# Altium integrated library Freescale Semiconductor ColdFire MPU.IntLib: 17 symbols (part 2 of 2)
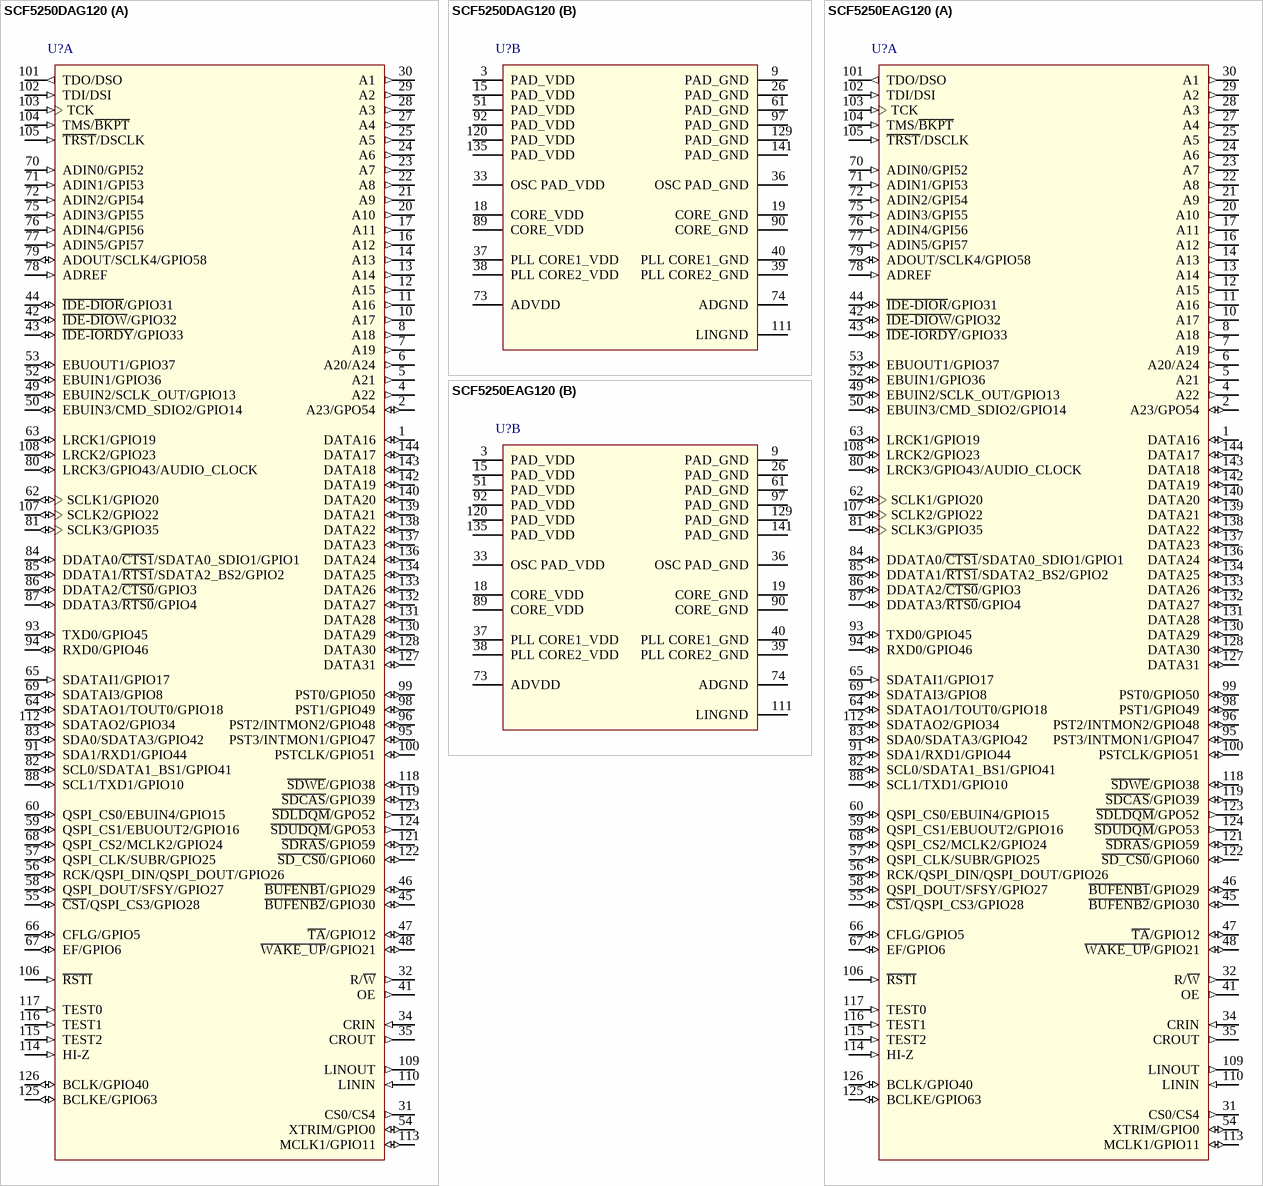
[diagram p9: symbols SCF5250DAG120 to SCF5250EAG120]

## SCF5250DAG120
designator U?
SCF5250 32-Bit Coldfire V2 Microprocessor, 120MHz, 128KB RAM, -20°C to 70°C, Lead Free, 144-Pin QFP; DatasheetVersion: rev1.3, Jul-2006; PackageVersion: revG, Nov-2009; PackageReference: 918-03; PackageDescription: 144-Pin Thin Quad Flat Pack, 20 x 20 mm Body, 0.5 mm Pitch; ComponentLink1Description: Manufacturer URL; ComponentLink1URL: http://www.freescale.com/
footprint 918-03_N (Thin QFP, 144-Leads, Body 20x20mm, Pitch 0.5mm, IPC Medium Density)
footprint 918-03_L (Thin QFP, 144-Leads, Body 20x20mm, Pitch 0.5mm, IPC High Density)
footprint 918-03_M (Thin QFP, 144-Leads, Body 20x20mm, Pitch 0.5mm, IPC Low Density)
part A pins: 1 DATA16 (io), 2 A23/GPO54 (io), 4 A22 (out), 5 A21 (out), 6 A20/A24 (out), 7 A19 (out), 8 A18 (out), 10 A17 (out), 11 A16 (out), 12 A15 (out), 13 A14 (out), 14 A13 (out), 16 A12 (out), 17 A11 (out), 20 A10 (out), 21 A9 (out), 22 A8 (out), 23 A7 (out), 24 A6 (out), 25 A5 (out), 27 A4 (out), 28 A3 (out), 29 A2 (out), 30 A1 (out), 31 CS0/CS4 (out), 32 R/~{W} (out), 34 CRIN (in), 35 CROUT (out), 41 OE (out), 42 ~{IDE-DIOW}/GPIO32 (io), 43 ~{IDE-IORDY}/GPIO33 (io), 44 ~{IDE-DIOR}/GPIO31 (io), 45 ~{BUFENB2}/GPIO30 (io), 46 ~{BUFENB1}/GPIO29 (io), 47 ~{TA}/GPIO12 (io), 48 ~{WAKE_UP}/GPIO21 (io), 49 EBUIN2/SCLK_OUT/GPIO13 (io), 50 EBUIN3/CMD_SDIO2/GPIO14 (io), 52 EBUIN1/GPIO36 (io), 53 EBUOUT1/GPIO37 (io), 54 XTRIM/GPIO0 (io), 55 ~{CS1}/QSPI_CS3/GPIO28 (io), 56 RCK/QSPI_DIN/QSPI_DOUT/GPIO26 (io), 57 QSPI_CLK/SUBR/GPIO25 (io), 58 QSPI_DOUT/SFSY/GPIO27 (io), 59 QSPI_CS1/EBUOUT2/GPIO16 (io), 60 QSPI_CS0/EBUIN4/GPIO15 (io), 62 SCLK1/GPIO20 (io), 63 LRCK1/GPIO19 (io), 64 SDATAO1/TOUT0/GPIO18 (io), 65 SDATAI1/GPIO17 (in), 66 CFLG/GPIO5 (io), 67 EF/GPIO6 (io), 68 QSPI_CS2/MCLK2/GPIO24 (io), 69 SDATAI3/GPIO8 (io), 70 ADIN0/GPI52 (in), 71 ADIN1/GPI53 (in), 72 ADIN2/GPI54 (in), 75 ADIN3/GPI55 (in), 76 ADIN4/GPI56 (in), 77 ADIN5/GPI57 (in), 78 ADREF (in), 79 ADOUT/SCLK4/GPIO58 (io), 80 LRCK3/GPIO43/AUDIO_CLOCK (io), 81 SCLK3/GPIO35 (io), 82 SCL0/SDATA1_BS1/GPIO41 (io), 83 SDA0/SDATA3/GPIO42 (io), 84 DDATA0/~{CTS1}/SDATA0_SDIO1/GPIO1 (io), 85 DDATA1/~{RTS1}/SDATA2_BS2/GPIO2 (io), 86 DDATA2/~{CTS0}/GPIO3 (io), 87 DDATA3/~{RTS0}/GPIO4 (io), 88 SCL1/TXD1/GPIO10 (io), 91 SDA1/RXD1/GPIO44 (io), 93 TXD0/GPIO45 (io), 94 RXD0/GPIO46 (io), 95 PST3/INTMON1/GPIO47 (io), 96 PST2/INTMON2/GPIO48 (io), 98 PST1/GPIO49 (io), 99 PST0/GPIO50 (io), 100 PSTCLK/GPIO51 (io), 101 TDO/DSO (out), 102 TDI/DSI (in), 103 TCK (in), 104 TMS/~{BKPT} (in), 105 ~{TRST}/DSCLK (in), 106 ~{RSTI} (in), 107 SCLK2/GPIO22 (io), 108 LRCK2/GPIO23 (io), 109 LINOUT (out), 110 LININ (in), 112 SDATAO2/GPIO34 (io), 113 MCLK1/GPIO11 (io), 114 HI-Z (in), 115 TEST2 (in), 116 TEST1 (in), 117 TEST0 (in), 118 ~{SDWE}/GPIO38 (io), 119 ~{SDCAS}/GPIO39 (io), 121 ~{SDRAS}/GPIO59 (io), 122 ~{SD_CS0}/GPIO60 (io), 123 ~{SDLDQM}/GPO52 (out), 124 ~{SDUDQM}/GPO53 (out), 125 BCLKE/GPIO63 (io), 126 BCLK/GPIO40 (io), 127 DATA31 (io), 128 DATA30 (io), 130 DATA29 (io), 131 DATA28 (io), 132 DATA27 (io), 133 DATA26 (io), 134 DATA25 (io), 136 DATA24 (io), 137 DATA23 (io), 138 DATA22 (io), 139 DATA21 (io), 140 DATA20 (io), 142 DATA19 (io), 143 DATA18 (io), 144 DATA17 (io)
part B pins: 3 PAD_VDD (power), 9 PAD_GND (power), 15 PAD_VDD (power), 18 CORE_VDD (power), 19 CORE_GND (power), 26 PAD_GND (power), 33 OSC PAD_VDD (power), 36 OSC PAD_GND (power), 37 PLL CORE1_VDD (power), 38 PLL CORE2_VDD (power), 39 PLL CORE2_GND (power), 40 PLL CORE1_GND (power), 51 PAD_VDD (power), 61 PAD_GND (power), 73 ADVDD (power), 74 ADGND (power), 89 CORE_VDD (power), 90 CORE_GND (power), 92 PAD_VDD (power), 97 PAD_GND (power), 111 LINGND (power), 120 PAD_VDD (power), 129 PAD_GND (power), 135 PAD_VDD (power), 141 PAD_GND (power)

## SCF5250EAG120
designator U?
SCF5250 32-Bit Coldfire V2 Microprocessor, 120MHz, 128KB RAM, -20°C to 70°C, Lead Free, 144-Pin QFP; DatasheetVersion: rev1.3, Jul-2006; PackageVersion: revG, Nov-2009; PackageReference: 918-03; PackageDescription: 144-Pin Thin Quad Flat Pack, 20 x 20 mm Body, 0.5 mm Pitch; ComponentLink1Description: Manufacturer URL; ComponentLink1URL: http://www.freescale.com/
footprint 918-03_N (Thin QFP, 144-Leads, Body 20x20mm, Pitch 0.5mm, IPC Medium Density)
footprint 918-03_L (Thin QFP, 144-Leads, Body 20x20mm, Pitch 0.5mm, IPC High Density)
footprint 918-03_M (Thin QFP, 144-Leads, Body 20x20mm, Pitch 0.5mm, IPC Low Density)
part A pins: 1 DATA16 (io), 2 A23/GPO54 (io), 4 A22 (out), 5 A21 (out), 6 A20/A24 (out), 7 A19 (out), 8 A18 (out), 10 A17 (out), 11 A16 (out), 12 A15 (out), 13 A14 (out), 14 A13 (out), 16 A12 (out), 17 A11 (out), 20 A10 (out), 21 A9 (out), 22 A8 (out), 23 A7 (out), 24 A6 (out), 25 A5 (out), 27 A4 (out), 28 A3 (out), 29 A2 (out), 30 A1 (out), 31 CS0/CS4 (out), 32 R/~{W} (out), 34 CRIN (in), 35 CROUT (out), 41 OE (out), 42 ~{IDE-DIOW}/GPIO32 (io), 43 ~{IDE-IORDY}/GPIO33 (io), 44 ~{IDE-DIOR}/GPIO31 (io), 45 ~{BUFENB2}/GPIO30 (io), 46 ~{BUFENB1}/GPIO29 (io), 47 ~{TA}/GPIO12 (io), 48 ~{WAKE_UP}/GPIO21 (io), 49 EBUIN2/SCLK_OUT/GPIO13 (io), 50 EBUIN3/CMD_SDIO2/GPIO14 (io), 52 EBUIN1/GPIO36 (io), 53 EBUOUT1/GPIO37 (io), 54 XTRIM/GPIO0 (io), 55 ~{CS1}/QSPI_CS3/GPIO28 (io), 56 RCK/QSPI_DIN/QSPI_DOUT/GPIO26 (io), 57 QSPI_CLK/SUBR/GPIO25 (io), 58 QSPI_DOUT/SFSY/GPIO27 (io), 59 QSPI_CS1/EBUOUT2/GPIO16 (io), 60 QSPI_CS0/EBUIN4/GPIO15 (io), 62 SCLK1/GPIO20 (io), 63 LRCK1/GPIO19 (io), 64 SDATAO1/TOUT0/GPIO18 (io), 65 SDATAI1/GPIO17 (in), 66 CFLG/GPIO5 (io), 67 EF/GPIO6 (io), 68 QSPI_CS2/MCLK2/GPIO24 (io), 69 SDATAI3/GPIO8 (io), 70 ADIN0/GPI52 (in), 71 ADIN1/GPI53 (in), 72 ADIN2/GPI54 (in), 75 ADIN3/GPI55 (in), 76 ADIN4/GPI56 (in), 77 ADIN5/GPI57 (in), 78 ADREF (in), 79 ADOUT/SCLK4/GPIO58 (io), 80 LRCK3/GPIO43/AUDIO_CLOCK (io), 81 SCLK3/GPIO35 (io), 82 SCL0/SDATA1_BS1/GPIO41 (io), 83 SDA0/SDATA3/GPIO42 (io), 84 DDATA0/~{CTS1}/SDATA0_SDIO1/GPIO1 (io), 85 DDATA1/~{RTS1}/SDATA2_BS2/GPIO2 (io), 86 DDATA2/~{CTS0}/GPIO3 (io), 87 DDATA3/~{RTS0}/GPIO4 (io), 88 SCL1/TXD1/GPIO10 (io), 91 SDA1/RXD1/GPIO44 (io), 93 TXD0/GPIO45 (io), 94 RXD0/GPIO46 (io), 95 PST3/INTMON1/GPIO47 (io), 96 PST2/INTMON2/GPIO48 (io), 98 PST1/GPIO49 (io), 99 PST0/GPIO50 (io), 100 PSTCLK/GPIO51 (io), 101 TDO/DSO (out), 102 TDI/DSI (in), 103 TCK (in), 104 TMS/~{BKPT} (in), 105 ~{TRST}/DSCLK (in), 106 ~{RSTI} (in), 107 SCLK2/GPIO22 (io), 108 LRCK2/GPIO23 (io), 109 LINOUT (out), 110 LININ (in), 112 SDATAO2/GPIO34 (io), 113 MCLK1/GPIO11 (io), 114 HI-Z (in), 115 TEST2 (in), 116 TEST1 (in), 117 TEST0 (in), 118 ~{SDWE}/GPIO38 (io), 119 ~{SDCAS}/GPIO39 (io), 121 ~{SDRAS}/GPIO59 (io), 122 ~{SD_CS0}/GPIO60 (io), 123 ~{SDLDQM}/GPO52 (out), 124 ~{SDUDQM}/GPO53 (out), 125 BCLKE/GPIO63 (io), 126 BCLK/GPIO40 (io), 127 DATA31 (io), 128 DATA30 (io), 130 DATA29 (io), 131 DATA28 (io), 132 DATA27 (io), 133 DATA26 (io), 134 DATA25 (io), 136 DATA24 (io), 137 DATA23 (io), 138 DATA22 (io), 139 DATA21 (io), 140 DATA20 (io), 142 DATA19 (io), 143 DATA18 (io), 144 DATA17 (io)
part B pins: 3 PAD_VDD (power), 9 PAD_GND (power), 15 PAD_VDD (power), 18 CORE_VDD (power), 19 CORE_GND (power), 26 PAD_GND (power), 33 OSC PAD_VDD (power), 36 OSC PAD_GND (power), 37 PLL CORE1_VDD (power), 38 PLL CORE2_VDD (power), 39 PLL CORE2_GND (power), 40 PLL CORE1_GND (power), 51 PAD_VDD (power), 61 PAD_GND (power), 73 ADVDD (power), 74 ADGND (power), 89 CORE_VDD (power), 90 CORE_GND (power), 92 PAD_VDD (power), 97 PAD_GND (power), 111 LINGND (power), 120 PAD_VDD (power), 129 PAD_GND (power), 135 PAD_VDD (power), 141 PAD_GND (power)

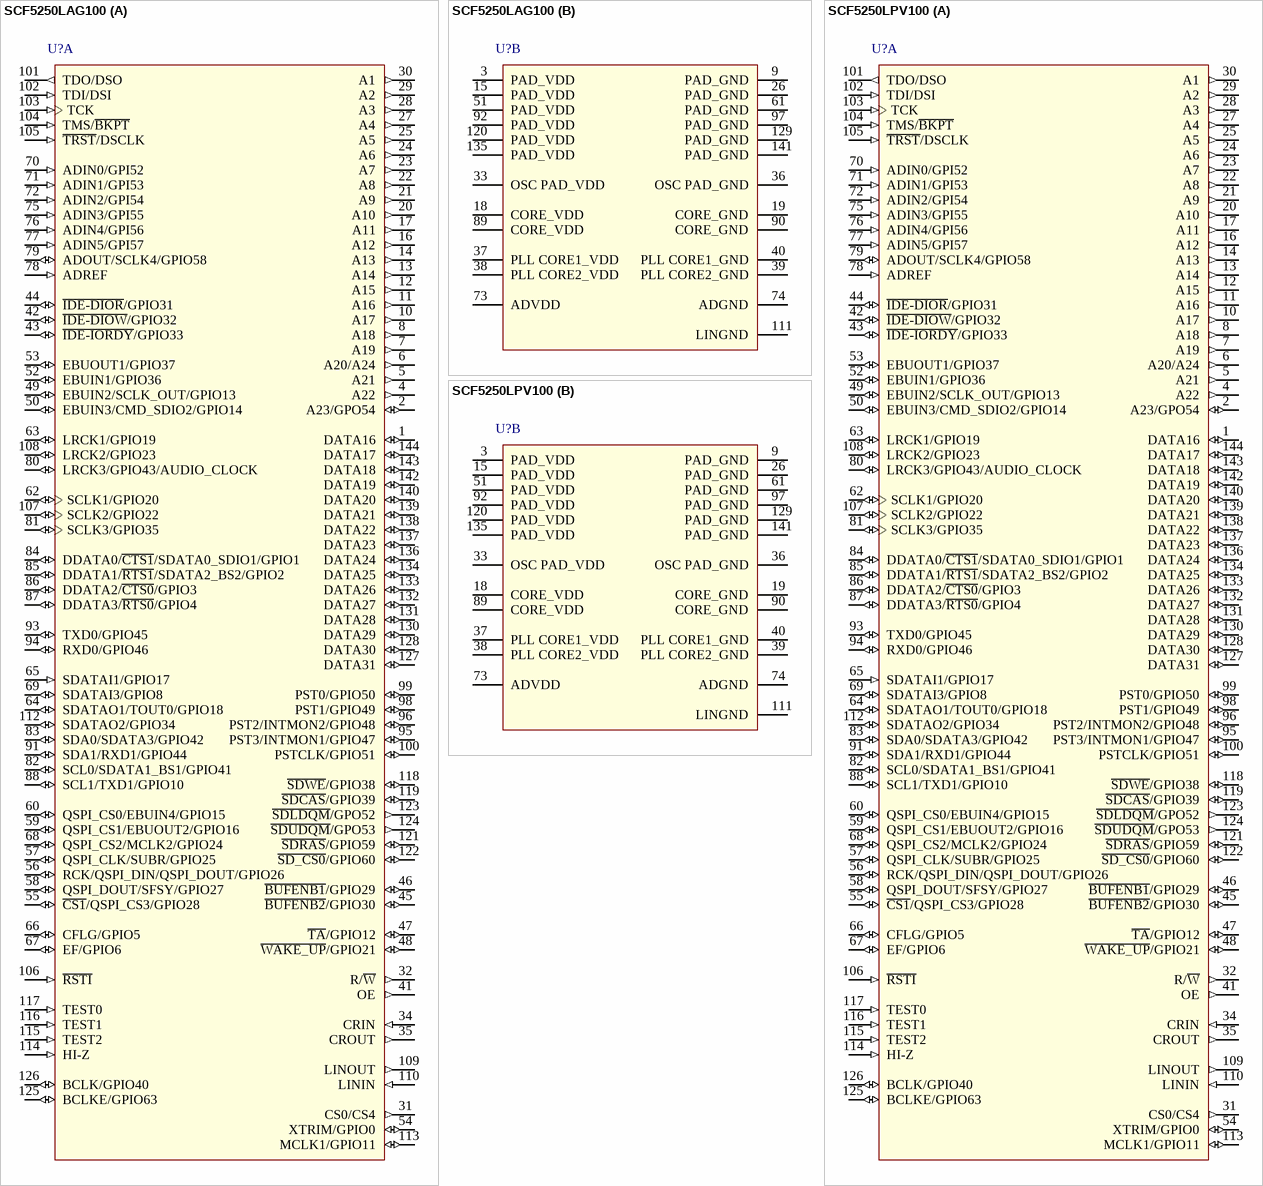
[diagram p7: symbols SCF5250LAG100 to SCF5250LPV100]

## SCF5250LAG100
designator U?
SCF5250 32-Bit Coldfire V2 Microprocessor, 100MHz, 128KB RAM, -20°C to 70°C, Lead Free, 144-Pin QFP; DatasheetVersion: rev1.3, Jul-2006; PackageVersion: revG, Nov-2009; PackageReference: 918-03; PackageDescription: 144-Pin Thin Quad Flat Pack, 20 x 20 mm Body, 0.5 mm Pitch; ComponentLink1Description: Manufacturer URL; ComponentLink1URL: http://www.freescale.com/
footprint 918-03_N (Thin QFP, 144-Leads, Body 20x20mm, Pitch 0.5mm, IPC Medium Density)
footprint 918-03_L (Thin QFP, 144-Leads, Body 20x20mm, Pitch 0.5mm, IPC High Density)
footprint 918-03_M (Thin QFP, 144-Leads, Body 20x20mm, Pitch 0.5mm, IPC Low Density)
part A pins: 1 DATA16 (io), 2 A23/GPO54 (io), 4 A22 (out), 5 A21 (out), 6 A20/A24 (out), 7 A19 (out), 8 A18 (out), 10 A17 (out), 11 A16 (out), 12 A15 (out), 13 A14 (out), 14 A13 (out), 16 A12 (out), 17 A11 (out), 20 A10 (out), 21 A9 (out), 22 A8 (out), 23 A7 (out), 24 A6 (out), 25 A5 (out), 27 A4 (out), 28 A3 (out), 29 A2 (out), 30 A1 (out), 31 CS0/CS4 (out), 32 R/~{W} (out), 34 CRIN (in), 35 CROUT (out), 41 OE (out), 42 ~{IDE-DIOW}/GPIO32 (io), 43 ~{IDE-IORDY}/GPIO33 (io), 44 ~{IDE-DIOR}/GPIO31 (io), 45 ~{BUFENB2}/GPIO30 (io), 46 ~{BUFENB1}/GPIO29 (io), 47 ~{TA}/GPIO12 (io), 48 ~{WAKE_UP}/GPIO21 (io), 49 EBUIN2/SCLK_OUT/GPIO13 (io), 50 EBUIN3/CMD_SDIO2/GPIO14 (io), 52 EBUIN1/GPIO36 (io), 53 EBUOUT1/GPIO37 (io), 54 XTRIM/GPIO0 (io), 55 ~{CS1}/QSPI_CS3/GPIO28 (io), 56 RCK/QSPI_DIN/QSPI_DOUT/GPIO26 (io), 57 QSPI_CLK/SUBR/GPIO25 (io), 58 QSPI_DOUT/SFSY/GPIO27 (io), 59 QSPI_CS1/EBUOUT2/GPIO16 (io), 60 QSPI_CS0/EBUIN4/GPIO15 (io), 62 SCLK1/GPIO20 (io), 63 LRCK1/GPIO19 (io), 64 SDATAO1/TOUT0/GPIO18 (io), 65 SDATAI1/GPIO17 (in), 66 CFLG/GPIO5 (io), 67 EF/GPIO6 (io), 68 QSPI_CS2/MCLK2/GPIO24 (io), 69 SDATAI3/GPIO8 (io), 70 ADIN0/GPI52 (in), 71 ADIN1/GPI53 (in), 72 ADIN2/GPI54 (in), 75 ADIN3/GPI55 (in), 76 ADIN4/GPI56 (in), 77 ADIN5/GPI57 (in), 78 ADREF (in), 79 ADOUT/SCLK4/GPIO58 (io), 80 LRCK3/GPIO43/AUDIO_CLOCK (io), 81 SCLK3/GPIO35 (io), 82 SCL0/SDATA1_BS1/GPIO41 (io), 83 SDA0/SDATA3/GPIO42 (io), 84 DDATA0/~{CTS1}/SDATA0_SDIO1/GPIO1 (io), 85 DDATA1/~{RTS1}/SDATA2_BS2/GPIO2 (io), 86 DDATA2/~{CTS0}/GPIO3 (io), 87 DDATA3/~{RTS0}/GPIO4 (io), 88 SCL1/TXD1/GPIO10 (io), 91 SDA1/RXD1/GPIO44 (io), 93 TXD0/GPIO45 (io), 94 RXD0/GPIO46 (io), 95 PST3/INTMON1/GPIO47 (io), 96 PST2/INTMON2/GPIO48 (io), 98 PST1/GPIO49 (io), 99 PST0/GPIO50 (io), 100 PSTCLK/GPIO51 (io), 101 TDO/DSO (out), 102 TDI/DSI (in), 103 TCK (in), 104 TMS/~{BKPT} (in), 105 ~{TRST}/DSCLK (in), 106 ~{RSTI} (in), 107 SCLK2/GPIO22 (io), 108 LRCK2/GPIO23 (io), 109 LINOUT (out), 110 LININ (in), 112 SDATAO2/GPIO34 (io), 113 MCLK1/GPIO11 (io), 114 HI-Z (in), 115 TEST2 (in), 116 TEST1 (in), 117 TEST0 (in), 118 ~{SDWE}/GPIO38 (io), 119 ~{SDCAS}/GPIO39 (io), 121 ~{SDRAS}/GPIO59 (io), 122 ~{SD_CS0}/GPIO60 (io), 123 ~{SDLDQM}/GPO52 (out), 124 ~{SDUDQM}/GPO53 (out), 125 BCLKE/GPIO63 (io), 126 BCLK/GPIO40 (io), 127 DATA31 (io), 128 DATA30 (io), 130 DATA29 (io), 131 DATA28 (io), 132 DATA27 (io), 133 DATA26 (io), 134 DATA25 (io), 136 DATA24 (io), 137 DATA23 (io), 138 DATA22 (io), 139 DATA21 (io), 140 DATA20 (io), 142 DATA19 (io), 143 DATA18 (io), 144 DATA17 (io)
part B pins: 3 PAD_VDD (power), 9 PAD_GND (power), 15 PAD_VDD (power), 18 CORE_VDD (power), 19 CORE_GND (power), 26 PAD_GND (power), 33 OSC PAD_VDD (power), 36 OSC PAD_GND (power), 37 PLL CORE1_VDD (power), 38 PLL CORE2_VDD (power), 39 PLL CORE2_GND (power), 40 PLL CORE1_GND (power), 51 PAD_VDD (power), 61 PAD_GND (power), 73 ADVDD (power), 74 ADGND (power), 89 CORE_VDD (power), 90 CORE_GND (power), 92 PAD_VDD (power), 97 PAD_GND (power), 111 LINGND (power), 120 PAD_VDD (power), 129 PAD_GND (power), 135 PAD_VDD (power), 141 PAD_GND (power)

## SCF5250LPV100
designator U?
SCF5250 32-Bit Coldfire V2 Microprocessor, 100MHz, 128KB RAM, -20°C to 70°C, Leaded, 144-Pin QFP; DatasheetVersion: rev1.3, Jul-2006; PackageVersion: revG, Nov-2009; PackageReference: 918-03; PackageDescription: 144-Pin Thin Quad Flat Pack, 20 x 20 mm Body, 0.5 mm Pitch; ComponentLink1Description: Manufacturer URL; ComponentLink1URL: http://www.freescale.com/
footprint 918-03_N (Thin QFP, 144-Leads, Body 20x20mm, Pitch 0.5mm, IPC Medium Density)
footprint 918-03_L (Thin QFP, 144-Leads, Body 20x20mm, Pitch 0.5mm, IPC High Density)
footprint 918-03_M (Thin QFP, 144-Leads, Body 20x20mm, Pitch 0.5mm, IPC Low Density)
part A pins: 1 DATA16 (io), 2 A23/GPO54 (io), 4 A22 (out), 5 A21 (out), 6 A20/A24 (out), 7 A19 (out), 8 A18 (out), 10 A17 (out), 11 A16 (out), 12 A15 (out), 13 A14 (out), 14 A13 (out), 16 A12 (out), 17 A11 (out), 20 A10 (out), 21 A9 (out), 22 A8 (out), 23 A7 (out), 24 A6 (out), 25 A5 (out), 27 A4 (out), 28 A3 (out), 29 A2 (out), 30 A1 (out), 31 CS0/CS4 (out), 32 R/~{W} (out), 34 CRIN (in), 35 CROUT (out), 41 OE (out), 42 ~{IDE-DIOW}/GPIO32 (io), 43 ~{IDE-IORDY}/GPIO33 (io), 44 ~{IDE-DIOR}/GPIO31 (io), 45 ~{BUFENB2}/GPIO30 (io), 46 ~{BUFENB1}/GPIO29 (io), 47 ~{TA}/GPIO12 (io), 48 ~{WAKE_UP}/GPIO21 (io), 49 EBUIN2/SCLK_OUT/GPIO13 (io), 50 EBUIN3/CMD_SDIO2/GPIO14 (io), 52 EBUIN1/GPIO36 (io), 53 EBUOUT1/GPIO37 (io), 54 XTRIM/GPIO0 (io), 55 ~{CS1}/QSPI_CS3/GPIO28 (io), 56 RCK/QSPI_DIN/QSPI_DOUT/GPIO26 (io), 57 QSPI_CLK/SUBR/GPIO25 (io), 58 QSPI_DOUT/SFSY/GPIO27 (io), 59 QSPI_CS1/EBUOUT2/GPIO16 (io), 60 QSPI_CS0/EBUIN4/GPIO15 (io), 62 SCLK1/GPIO20 (io), 63 LRCK1/GPIO19 (io), 64 SDATAO1/TOUT0/GPIO18 (io), 65 SDATAI1/GPIO17 (in), 66 CFLG/GPIO5 (io), 67 EF/GPIO6 (io), 68 QSPI_CS2/MCLK2/GPIO24 (io), 69 SDATAI3/GPIO8 (io), 70 ADIN0/GPI52 (in), 71 ADIN1/GPI53 (in), 72 ADIN2/GPI54 (in), 75 ADIN3/GPI55 (in), 76 ADIN4/GPI56 (in), 77 ADIN5/GPI57 (in), 78 ADREF (in), 79 ADOUT/SCLK4/GPIO58 (io), 80 LRCK3/GPIO43/AUDIO_CLOCK (io), 81 SCLK3/GPIO35 (io), 82 SCL0/SDATA1_BS1/GPIO41 (io), 83 SDA0/SDATA3/GPIO42 (io), 84 DDATA0/~{CTS1}/SDATA0_SDIO1/GPIO1 (io), 85 DDATA1/~{RTS1}/SDATA2_BS2/GPIO2 (io), 86 DDATA2/~{CTS0}/GPIO3 (io), 87 DDATA3/~{RTS0}/GPIO4 (io), 88 SCL1/TXD1/GPIO10 (io), 91 SDA1/RXD1/GPIO44 (io), 93 TXD0/GPIO45 (io), 94 RXD0/GPIO46 (io), 95 PST3/INTMON1/GPIO47 (io), 96 PST2/INTMON2/GPIO48 (io), 98 PST1/GPIO49 (io), 99 PST0/GPIO50 (io), 100 PSTCLK/GPIO51 (io), 101 TDO/DSO (out), 102 TDI/DSI (in), 103 TCK (in), 104 TMS/~{BKPT} (in), 105 ~{TRST}/DSCLK (in), 106 ~{RSTI} (in), 107 SCLK2/GPIO22 (io), 108 LRCK2/GPIO23 (io), 109 LINOUT (out), 110 LININ (in), 112 SDATAO2/GPIO34 (io), 113 MCLK1/GPIO11 (io), 114 HI-Z (in), 115 TEST2 (in), 116 TEST1 (in), 117 TEST0 (in), 118 ~{SDWE}/GPIO38 (io), 119 ~{SDCAS}/GPIO39 (io), 121 ~{SDRAS}/GPIO59 (io), 122 ~{SD_CS0}/GPIO60 (io), 123 ~{SDLDQM}/GPO52 (out), 124 ~{SDUDQM}/GPO53 (out), 125 BCLKE/GPIO63 (io), 126 BCLK/GPIO40 (io), 127 DATA31 (io), 128 DATA30 (io), 130 DATA29 (io), 131 DATA28 (io), 132 DATA27 (io), 133 DATA26 (io), 134 DATA25 (io), 136 DATA24 (io), 137 DATA23 (io), 138 DATA22 (io), 139 DATA21 (io), 140 DATA20 (io), 142 DATA19 (io), 143 DATA18 (io), 144 DATA17 (io)
part B pins: 3 PAD_VDD (power), 9 PAD_GND (power), 15 PAD_VDD (power), 18 CORE_VDD (power), 19 CORE_GND (power), 26 PAD_GND (power), 33 OSC PAD_VDD (power), 36 OSC PAD_GND (power), 37 PLL CORE1_VDD (power), 38 PLL CORE2_VDD (power), 39 PLL CORE2_GND (power), 40 PLL CORE1_GND (power), 51 PAD_VDD (power), 61 PAD_GND (power), 73 ADVDD (power), 74 ADGND (power), 89 CORE_VDD (power), 90 CORE_GND (power), 92 PAD_VDD (power), 97 PAD_GND (power), 111 LINGND (power), 120 PAD_VDD (power), 129 PAD_GND (power), 135 PAD_VDD (power), 141 PAD_GND (power)

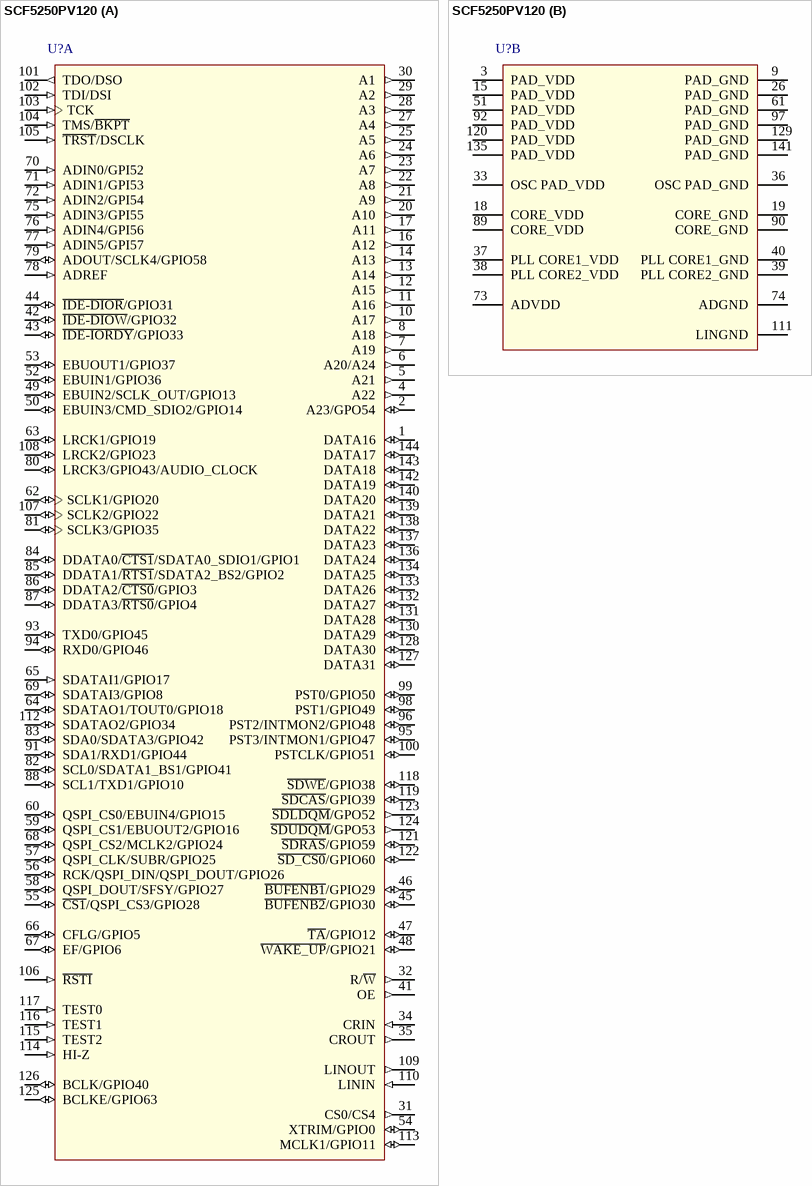
[diagram p8: symbol SCF5250PV120]

## SCF5250PV120
designator U?
SCF5250 32-Bit Coldfire V2 Microprocessor, 120MHz, 128KB RAM, -20°C to 70°C, Leaded, 144-Pin QFP; DatasheetVersion: rev1.3, Jul-2006; PackageVersion: revG, Nov-2009; PackageReference: 918-03; PackageDescription: 144-Pin Thin Quad Flat Pack, 20 x 20 mm Body, 0.5 mm Pitch; ComponentLink1Description: Manufacturer URL; ComponentLink1URL: http://www.freescale.com/
footprint 918-03_N (Thin QFP, 144-Leads, Body 20x20mm, Pitch 0.5mm, IPC Medium Density)
footprint 918-03_L (Thin QFP, 144-Leads, Body 20x20mm, Pitch 0.5mm, IPC High Density)
footprint 918-03_M (Thin QFP, 144-Leads, Body 20x20mm, Pitch 0.5mm, IPC Low Density)
part A pins: 1 DATA16 (io), 2 A23/GPO54 (io), 4 A22 (out), 5 A21 (out), 6 A20/A24 (out), 7 A19 (out), 8 A18 (out), 10 A17 (out), 11 A16 (out), 12 A15 (out), 13 A14 (out), 14 A13 (out), 16 A12 (out), 17 A11 (out), 20 A10 (out), 21 A9 (out), 22 A8 (out), 23 A7 (out), 24 A6 (out), 25 A5 (out), 27 A4 (out), 28 A3 (out), 29 A2 (out), 30 A1 (out), 31 CS0/CS4 (out), 32 R/~{W} (out), 34 CRIN (in), 35 CROUT (out), 41 OE (out), 42 ~{IDE-DIOW}/GPIO32 (io), 43 ~{IDE-IORDY}/GPIO33 (io), 44 ~{IDE-DIOR}/GPIO31 (io), 45 ~{BUFENB2}/GPIO30 (io), 46 ~{BUFENB1}/GPIO29 (io), 47 ~{TA}/GPIO12 (io), 48 ~{WAKE_UP}/GPIO21 (io), 49 EBUIN2/SCLK_OUT/GPIO13 (io), 50 EBUIN3/CMD_SDIO2/GPIO14 (io), 52 EBUIN1/GPIO36 (io), 53 EBUOUT1/GPIO37 (io), 54 XTRIM/GPIO0 (io), 55 ~{CS1}/QSPI_CS3/GPIO28 (io), 56 RCK/QSPI_DIN/QSPI_DOUT/GPIO26 (io), 57 QSPI_CLK/SUBR/GPIO25 (io), 58 QSPI_DOUT/SFSY/GPIO27 (io), 59 QSPI_CS1/EBUOUT2/GPIO16 (io), 60 QSPI_CS0/EBUIN4/GPIO15 (io), 62 SCLK1/GPIO20 (io), 63 LRCK1/GPIO19 (io), 64 SDATAO1/TOUT0/GPIO18 (io), 65 SDATAI1/GPIO17 (in), 66 CFLG/GPIO5 (io), 67 EF/GPIO6 (io), 68 QSPI_CS2/MCLK2/GPIO24 (io), 69 SDATAI3/GPIO8 (io), 70 ADIN0/GPI52 (in), 71 ADIN1/GPI53 (in), 72 ADIN2/GPI54 (in), 75 ADIN3/GPI55 (in), 76 ADIN4/GPI56 (in), 77 ADIN5/GPI57 (in), 78 ADREF (in), 79 ADOUT/SCLK4/GPIO58 (io), 80 LRCK3/GPIO43/AUDIO_CLOCK (io), 81 SCLK3/GPIO35 (io), 82 SCL0/SDATA1_BS1/GPIO41 (io), 83 SDA0/SDATA3/GPIO42 (io), 84 DDATA0/~{CTS1}/SDATA0_SDIO1/GPIO1 (io), 85 DDATA1/~{RTS1}/SDATA2_BS2/GPIO2 (io), 86 DDATA2/~{CTS0}/GPIO3 (io), 87 DDATA3/~{RTS0}/GPIO4 (io), 88 SCL1/TXD1/GPIO10 (io), 91 SDA1/RXD1/GPIO44 (io), 93 TXD0/GPIO45 (io), 94 RXD0/GPIO46 (io), 95 PST3/INTMON1/GPIO47 (io), 96 PST2/INTMON2/GPIO48 (io), 98 PST1/GPIO49 (io), 99 PST0/GPIO50 (io), 100 PSTCLK/GPIO51 (io), 101 TDO/DSO (out), 102 TDI/DSI (in), 103 TCK (in), 104 TMS/~{BKPT} (in), 105 ~{TRST}/DSCLK (in), 106 ~{RSTI} (in), 107 SCLK2/GPIO22 (io), 108 LRCK2/GPIO23 (io), 109 LINOUT (out), 110 LININ (in), 112 SDATAO2/GPIO34 (io), 113 MCLK1/GPIO11 (io), 114 HI-Z (in), 115 TEST2 (in), 116 TEST1 (in), 117 TEST0 (in), 118 ~{SDWE}/GPIO38 (io), 119 ~{SDCAS}/GPIO39 (io), 121 ~{SDRAS}/GPIO59 (io), 122 ~{SD_CS0}/GPIO60 (io), 123 ~{SDLDQM}/GPO52 (out), 124 ~{SDUDQM}/GPO53 (out), 125 BCLKE/GPIO63 (io), 126 BCLK/GPIO40 (io), 127 DATA31 (io), 128 DATA30 (io), 130 DATA29 (io), 131 DATA28 (io), 132 DATA27 (io), 133 DATA26 (io), 134 DATA25 (io), 136 DATA24 (io), 137 DATA23 (io), 138 DATA22 (io), 139 DATA21 (io), 140 DATA20 (io), 142 DATA19 (io), 143 DATA18 (io), 144 DATA17 (io)
part B pins: 3 PAD_VDD (power), 9 PAD_GND (power), 15 PAD_VDD (power), 18 CORE_VDD (power), 19 CORE_GND (power), 26 PAD_GND (power), 33 OSC PAD_VDD (power), 36 OSC PAD_GND (power), 37 PLL CORE1_VDD (power), 38 PLL CORE2_VDD (power), 39 PLL CORE2_GND (power), 40 PLL CORE1_GND (power), 51 PAD_VDD (power), 61 PAD_GND (power), 73 ADVDD (power), 74 ADGND (power), 89 CORE_VDD (power), 90 CORE_GND (power), 92 PAD_VDD (power), 97 PAD_GND (power), 111 LINGND (power), 120 PAD_VDD (power), 129 PAD_GND (power), 135 PAD_VDD (power), 141 PAD_GND (power)